# Altium schematic symbol library Oscillator_Fox_FXO-HC736R-33.3333.SchLib: 1 symbol
Pins are listed as number, name and electrical type; pins without a type are passive.

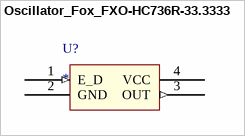
[diagram p0: symbol Oscillator_Fox_FXO-HC736R-33.3333]

## Oscillator_Fox_FXO-HC736R-33.3333
designator U?
pins: 1 E_D (in), 2 GND (power), 3 OUT (out), 4 VCC (power)